# EAGLE library part 1985250 (library Connectors)
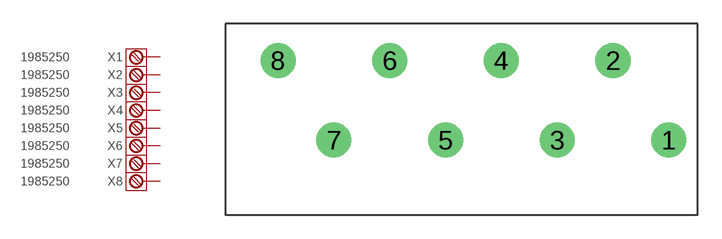
[diagram p0: symbol with the pads of TB-3.5-8POS-ZIGZAG; footprint TB-3.5-8POS-ZIGZAG]

Designator prefix X; gates 1=TB-PIN-1 2=TB-PIN-1 3=TB-PIN-1 4=TB-PIN-1 5=TB-PIN-1 6=TB-PIN-1 7=TB-PIN-1 8=TB-PIN-1

## 1985250 (DESCRIPTION: value; LINK: value; MANUFACTURER: value; PACKAGE: value; PART_NUMBER: value)  [TB-3.5-8POS-ZIGZAG]
1  1:1  pas
2  2:1  pas
3  3:1  pas
4  4:1  pas
5  5:1  pas
6  6:1  pas
7  7:1  pas
8  8:1  pas

## Footprint TB-3.5-8POS-ZIGZAG (pad centres in mm)
drill 1.1 pad 2.2: 1 7,0; 2 3.5,5; 3 0,0; 4 -3.5,5; 5 -7,0; 6 -10.5,5; 7 -14,0; 8 -17.5,5